# EAGLE library part SN75451B (library custom_parts)
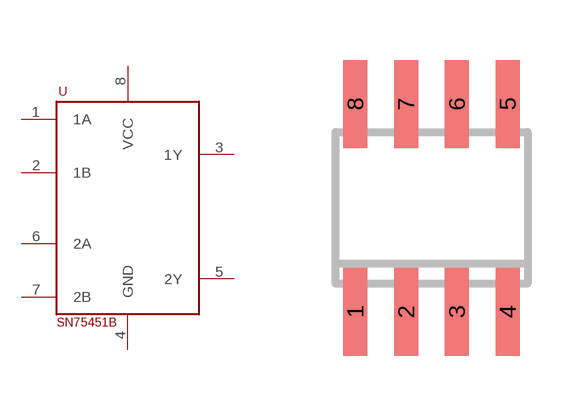
[diagram p4: symbol with the pads of SOIC8; footprint SOIC8]

Designator prefix -

## SN75451B  [SOIC8]
1  1A
2  1B
3  1Y
4  GND
5  2Y
6  2A
7  2B
8  VCC

## Footprint SOIC8 (pad centres in mm)
Small Outline IC
smd 0.6 x 2.2: 1 -1.905,-2.6; 2 -0.635,-2.6; 3 0.635,-2.6; 4 1.905,-2.6; 5 1.905,2.6; 6 0.635,2.6; 7 -0.635,2.6; 8 -1.905,2.6